# Altium footprint library RESC3126X65N.PcbLib: 1 footprints
Each footprint in its own frame and in the unit in brackets; x right, y up, seen from the top. Pads: shape width x height; smd on the part's side, far side on the other; paste and mask are expansions set on the pad; w line width, h text height; cw(c..) or ccw(c..) is an arc to the next point about the centre after c.
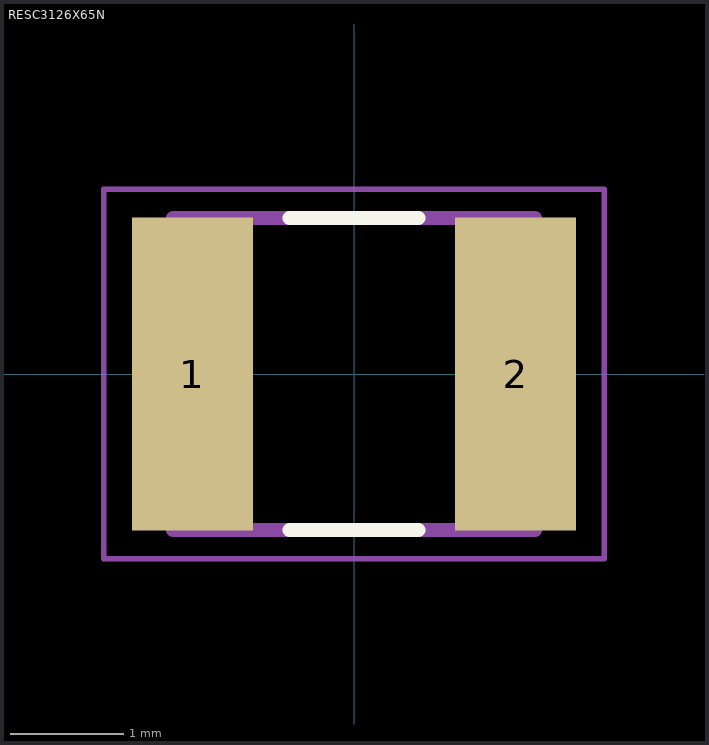
[diagram p0: the footprint, top view; thin cyan lines are the x and y axes]

## RESC3126X65N [mm]
pads (2):
  rect 1.07x2.77 smd: 1(-1.43,0) 2(1.43,0)
Top Overlay:
  lines w0.127: -0.57,-1.38 0.57,-1.38 ; -0.57,1.38 0.57,1.38
Mechanical 13:
  lines w0.127: -1.6,-1.38 1.6,-1.38 1.6,1.38 -1.6,1.38 -1.6,-1.38
Mechanical 15:
  lines w0.05: -2.215,-1.635 2.215,-1.635 2.215,1.635 -2.215,1.635 -2.215,-1.635